# Altium schematic symbol library ARM.SchLib: 3 symbols
Pins are listed as number, name and electrical type; pins without a type are passive.

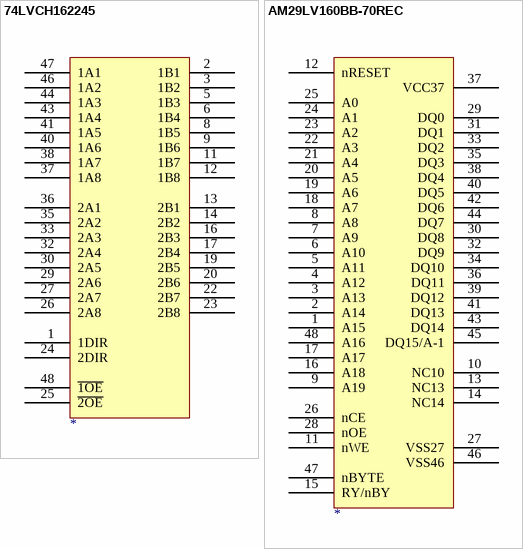
[diagram p0: symbols 74LVCH162245 to AM29LV160BB-70REC]

## 74LVCH162245
designator ?
pins: 1 1DIR, 2 1B1, 3 1B2, 5 1B3, 6 1B4, 8 1B5, 9 1B6, 11 1B7, 12 1B8, 13 2B1, 14 2B2, 16 2B3, 17 2B4, 19 2B5, 20 2B6, 22 2B7, 23 2B8, 24 2DIR, 25 ~{2OE}, 26 2A8, 27 2A7, 29 2A6, 30 2A5, 32 2A4, 33 2A3, 35 2A2, 36 2A1, 37 1A8, 38 1A7, 40 1A6, 41 1A5, 43 1A4, 44 1A3, 46 1A2, 47 1A1, 48 ~{1OE}

## AM29LV160BB-70REC
designator ?
pins: 1 A15, 2 A14, 3 A13, 4 A12, 5 A11, 6 A10, 7 A9, 8 A8, 9 A19, 10 NC10, 11 nWE, 12 nRESET, 13 NC13, 14 NC14, 15 RY/nBY, 16 A18, 17 A17, 18 A7, 19 A6, 20 A5, 21 A4, 22 A3, 23 A2, 24 A1, 25 A0, 26 nCE, 27 VSS27, 28 nOE, 29 DQ0, 30 DQ8, 31 DQ1, 32 DQ9, 33 DQ2, 34 DQ10, 35 DQ3, 36 DQ11, 37 VCC37, 38 DQ4, 39 DQ12, 40 DQ5, 41 DQ13, 42 DQ6, 43 DQ14, 44 DQ7, 45 DQ15/A-1, 46 VSS46, 47 nBYTE, 48 A16

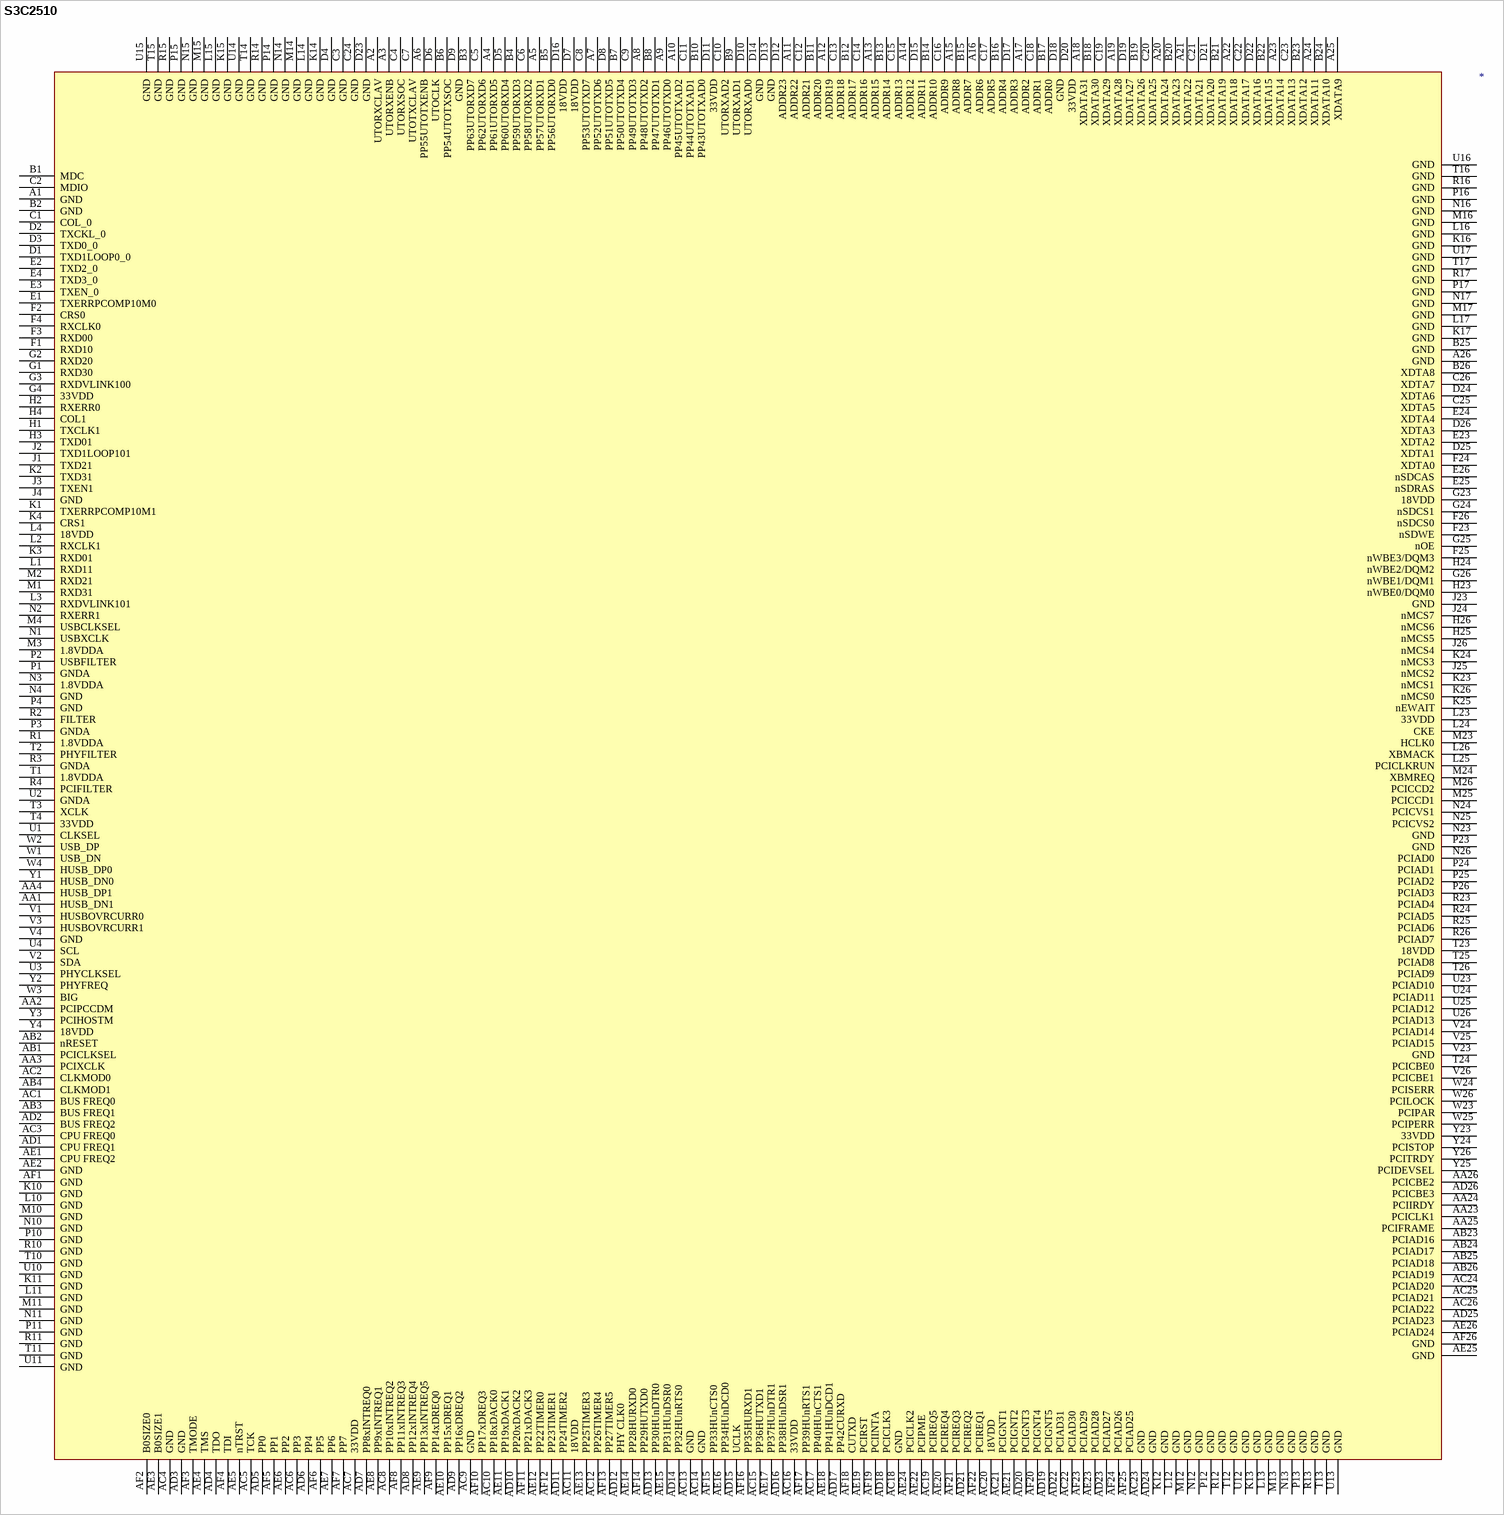
[diagram p1: symbol S3C2510]

## S3C2510
designator ?
pins: A1 GND, A2 UTORXCLAV, A3 UTORXENB, A4 PP61UTORXD5, A5 PP57UTORXD1, A6 PP55UTOTXENB, A7 PP52UTOTXD6, A8 PP48UTOTXD2, A9 PP46UTOTXD0, A10 PP45UTOTXAD2, A11 ADDR22, A12 ADDR19, A13 ADDR15, A14 ADDR12, A15 ADDR8, A16 ADDR6, A17 ADDR2, A18 XDATA31, A19 XDATA28, A20 XDATA24, A21 XDATA22, A22 XDATA18, A23 XDATA14, A24 XDATA11, A25 XDATA9, A26 GND, AA1 HUSB_DN1, AA2 PCIPCCDM, AA3 PCIXCLK, AA4 HUSB_DP1, AA23 PCICLK1, AA24 PCIIRDY, AA25 PCIFRAME, AA26 PCICBE2, AB1 PCICLKSEL, AB2 nRESET, AB3 BUS FREQ1, AB4 CLKMOD1, AB23 PCIAD16, AB24 PCIAD17, AB25 PCIAD18, AB26 PCIAD19, AC1 BUS FREQ0, AC2 CLKMOD0, AC3 CPU FREQ0, AC4 GND, AC5 TCK, AC6 PP3, AC7 33VDD, AC8 PP10xINTREQ2, AC9 GND, AC10 PP18xDACK0, AC11 18VDD, AC12 PP26TIMER4, AC13 GND, AC14 GND, AC15 PP36HUTXD1, AC16 33VDD, AC17 PP40HUnCTS1, AC18 GND, AC19 PCIREQ5, AC20 18VDD, AC21 PCIGNT1, AC22 PCIAD30, AC23 GND, AC24 PCIAD20, AC25 PCIAD21, AC26 PCIAD22, AD1 CPU FREQ1, AD2 BUS FREQ2, AD3 GND, AD4 TDO, AD5 PP0, AD6 PP4, AD7 PP8xINTREQ0, AD8 PP12xINTREQ4, AD9 PP16xDREQ2, AD10 PP20xDACK2, AD11 PP24TIMER2, AD12 PHY CLK0, AD13 PP30HUnDTR0, AD14 PP32HUnRTS0, AD15 UCLK, AD16 PP38HUnDSR1, AD17 PP42CURXD, AD18 PCICLK3, AD19 PCIGNT5, AD20 PCIGNT3, AD21 PCIREQ2, AD22 PCIAD31, AD23 PCIAD27, AD24 GND, AD25 PCIAD23, AD26 PCICBE3, AE1 CPU FREQ2, AE2 GND, AE3 B0SIZE1, AE4 TMS, AE5 nTRST, AE6 PP2, AE7 PP6, AE8 PP9xINTREQ1, AE9 PP13xINTREQ5, AE10 PP15xDREQ1, AE11 PP19xDACK1, AE12 PP22TIMER0, AE13 PP25TIMER3, AE14 PP28HURXD0, AE15 PP31HUnDSR0, AE16 PP34HUnDCD0, AE17 PP37HUnDTR1, AE18 PP41HUnDCD1, AE19 PCIRST, AE20 PCIREQ4, AE21 PCIGNT2, AE22 PCIPME, AE23 PCIAD28, AE24 PCICLK2, AE25 GND, AE26 PCIAD24, AF1 GND, AF2 B0SIZE0, AF3 TMODE, AF4 TDI, AF5 PP1, AF6 PP5, AF7 PP7, AF8 PP11xINTREQ3, AF9 PP14xDREQ0, AF10 PP17xDREQ3, AF11 PP21xDACK3, AF12 PP23TIMER1, AF13 PP27TIMER5, AF14 PP29HUTXD0, AF15 PP33HUnCTS0, AF16 PP35HURXD1, AF17 PP39HUnRTS1, AF18 CUTXD, AF19 PCIINTA, AF20 PCIGNT4, AF21 PCIREQ3, AF22 PCIREQ1, AF23 PCIAD29, AF24 PCIAD26, AF25 PCIAD25, AF26 GND, B1 MDC, B2 GND, B3 PP63UTORXD7, B4 PP59UTORXD3, B5 PP56UTORXD0, B6 PP54UTOTXSOC, B7 PP50UTOTXD4, B8 PP47UTOTXD1, B9 UTORXAD1, B10 PP43UTOTXAD0, B11 ADDR20, B12 ADDR17, B13 ADDR14, B14 ADDR10, B15 ADDR7, B16 ADDR4, B17 ADDR0, B18 XDATA30, B19 XDATA26, B20 XDATA23, B21 XDATA19, B22 XDATA15, B23 XDATA12, B24 XDATA10, B25 GND, B26 XDTA8, C1 COL_0, C2 MDIO, C3 GND, C4 UTORXSOC, C5 PP62UTORXD6, C6 PP58UTORXD2, C7 UTOTXCLAV, C8 PP53UTOTXD7, C9 PP49UTOTXD3, C10 UTORXAD2, C11 PP44UTOTXAD1, C12 ADDR21, C13 ADDR18, C14 ADDR16, C15 ADDR13, C16 ADDR9, C17 ADDR5, C18 ADDR1, C19 XDATA29, C20 XDATA25, C21 XDATA21, C22 XDATA17, C23 XDATA13, C24 GND, C25 XDTA5, C26 XDTA7, D1 TXD1LOOP0_0, D2 TXCKL_0, D3 TXD0_0, D4 GND, D5 PP60UTORXD4, D6 UTOCLK, D7 18VDD, D8 PP51UTOTXD5, D9 GND, D10 UTORXAD0, D11 33VDD, D12 ADDR23, D13 GND, D14 GND, D15 ADDR11, D16 18VDD, D17 ADDR3, D18 GND, D19 XDATA27, D20 33VDD, D21 XDATA20, D22 XDATA16, D23 GND, D24 XDTA6, D25 XDTA1, D26 XDTA3, E1 TXERRPCOMP10M0, E2 TXD2_0, E3 TXEN_0, E4 TXD3_0, E23 XDTA2, E24 XDTA4, E25 nSDRAS, E26 nSDCAS, F1 RXD10, F2 CRS0, F3 RXD00, F4 RXCLK0, F23 nSDWE, F24 XDTA0, F25 nWBE3/DQM3, F26 nSDCS0, G1 RXD30, G2 RXD20, G3 RXDVLINK100, G4 33VDD, G23 18VDD, G24 nSDCS1, G25 nOE, G26 nWBE1/DQM1, H1 TXCLK1, H2 RXERR0, H3 TXD01, H4 COL1, H23 nWBE0/DQM0, H24 nWBE2/DQM2, H25 nMCS5, H26 nMCS6, J1 TXD21, J2 TXD1LOOP101, J3 TXEN1, J4 GND, J23 GND, J24 nMCS7, J25 nMCS2, J26 nMCS4, K1 TXERRPCOMP10M1, K2 TXD31, K3 RXD01, K4 CRS1, K10 GND, K11 GND, K12 GND, K13 GND, K14 GND, K15 GND, K16 GND, K17 GND, K23 nMCS1, K24 nMCS3, K25 nEWAIT, K26 nMCS0, L1 RXD11, L2 RXCLK1, L3 RXDVLINK101, L4 18VDD, L10 GND, L11 GND, L12 GND, L13 GND, L14 GND, L15 GND, L16 GND, L17 GND, L23 33VDD, L24 CKE, L25 PCICLKRUN, L26 XBMACK, M1 RXD31, M2 RXD21, M3 1.8VDDA, M4 USBCLKSEL, M10 GND, M11 GND, M12 GND, M13 GND, M14 GND, M15 GND, M16 GND, M17 GND, M23 HCLK0, M24 XBMREQ, M25 PCICCD1, M26 PCICCD2, N1 USBXCLK, N2 RXERR1, N3 1.8VDDA, N4 GND, N10 GND, N11 GND, N12 GND, N13 GND, N14 GND, N15 GND, N16 GND, N17 GND, N23 GND, N24 PCICVS1, N25 PCICVS2, N26 PCIAD0, P1 GNDA, P2 USBFILTER, P3 GNDA, P4 GND, P10 GND, P11 GND, P12 GND, P13 GND, P14 GND, P15 GND, P16 GND, P17 GND, P23 GND, P24 PCIAD1, P25 PCIAD2, P26 PCIAD3, R1 1.8VDDA, R2 FILTER, R3 GNDA, R4 PCIFILTER, R10 GND, R11 GND, R12 GND, R13 GND, R14 GND, R15 GND, R16 GND, R17 GND, R23 PCIAD4, R24 PCIAD5, R25 PCIAD6, R26 PCIAD7, T1 1.8VDDA, T2 PHYFILTER, T3 XCLK, T4 33VDD, T10 GND, T11 GND, T12 GND, T13 GND, T14 GND, T15 GND, T16 GND, T17 GND, T23 18VDD, T24 PCICBE0, T25 PCIAD8, T26 PCIAD9, U1 CLKSEL, U2 GNDA, U3 PHYCLKSEL, U4 SCL, U10 GND, U11 GND, U12 GND, U13 GND, U14 GND, U15 GND, U16 GND, U17 GND, U23 PCIAD10, U24 PCIAD11, U25 PCIAD12, U26 PCIAD13, V1 HUSBOVRCURR0, V2 SDA, V3 HUSBOVRCURR1, V4 GND, V23 GND, V24 PCIAD14, V25 PCIAD15, V26 PCICBE1, W1 USB_DN, W2 USB_DP, W3 BIG, W4 HUSB_DP0, W23 PCIPAR, W24 PCISERR, W25 PCIPERR, W26 PCILOCK, Y1 HUSB_DN0, Y2 PHYFREQ, Y3 PCIHOSTM, Y4 18VDD, Y23 33VDD, Y24 PCISTOP, Y25 PCIDEVSEL, Y26 PCITRDY